# EAGLE library part ADXL345BCCZ-RL7 (library Sensor)
ACCEL 2-16G I2C/SPI 14LGA Manufacturer's datasheet <https://www.analog.com/media/en/technical-documentation/data-sheets/ADXL345.pdf>
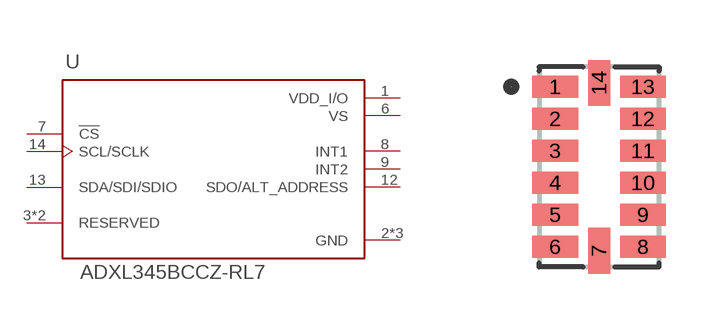
[diagram p21: symbol with the pads of LGA-14; footprint LGA-14]

Designator prefix U

## ADXL345BCCZ-RL7 (CREATED_BY: PCBLayout.com; DIGIKEY_PN: ADXL345BCCZ-RL7TR-ND; MANUFACTURER: Analog Devices Inc.; MPN: ADXL345BCCZ-RL7; PACKAGE: LGA-14)  [LGA-14]
1  VDD_I/O  pwr
2  GND  pwr
3  RESERVED  pas
4  GND  pwr
5  GND  pwr
6  VS  pwr
7  !CS  in
8  INT1  out
9  INT2  out
11  RESERVED  pas
12  SDO/ALT_ADDRESS  out
13  SDA/SDI/SDIO
14  SCL/SCLK  in

## Footprint LGA-14 (pad centres in mm)
smd 1.145 x 0.55: 1 -1.097,2; 2 -1.097,1.2; 3 -1.097,0.4; 4 -1.097,-0.4; 5 -1.097,-1.2; 6 -1.097,-2; 8 1.097,-2; 9 1.097,-1.2; 10 1.097,-0.4; 11 1.097,0.4; 12 1.097,1.2; 13 1.097,2
smd 0.55 x 1.145: 7 0,-2.098; 14 0,2.098